# Altium footprint library Conn_JST_S4B-PH-SM4-TB_LF_SN_eec_0.PcbLib: 1 footprints
Each footprint in its own frame and in the unit in brackets; x right, y up, seen from the top. Pads: shape width x height; smd on the part's side, far side on the other; paste and mask are expansions set on the pad; w line width, h text height; cw(c..) or ccw(c..) is an arc to the next point about the centre after c.
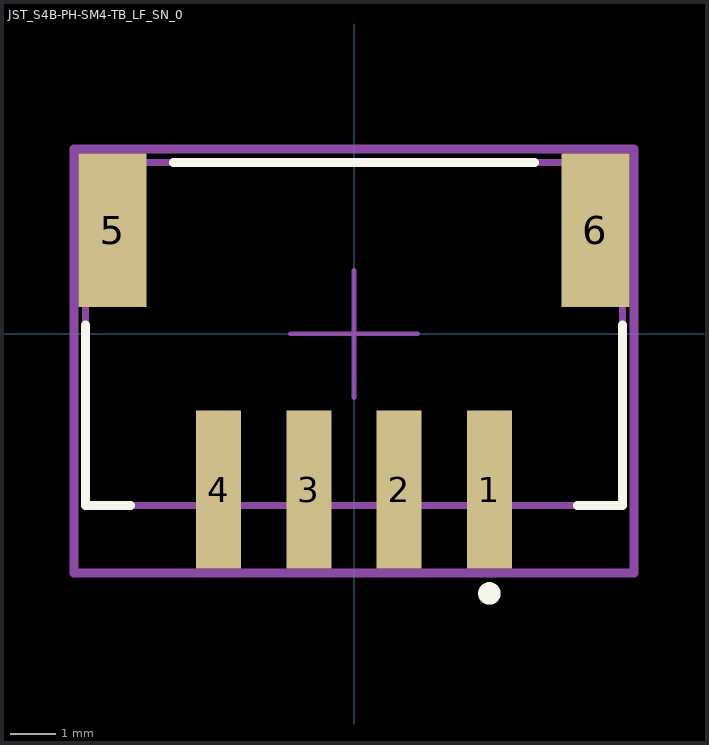
[diagram p0: the footprint, top view; thin cyan lines are the x and y axes]

## JST_S4B-PH-SM4-TB_LF_SN_0 [mm]
pads (6):
  rect 1x3.5 smd paste+0 mask+0: 1(3,-3.45) 2(1,-3.45) 3(-1,-3.45) 4(-3,-3.45)
  rect 1.5x3.4 smd paste+0 mask+0: 5(-5.35,2.3) 6(5.35,2.3)
Top Overlay:
  circle w0.25: c3,-5.75 r0.125
  lines w0.2: -5.95,0.2 -5.95,-3.8 -4.95,-3.8 ; -4,3.8 4,3.8 ; 4.95,-3.8 5.95,-3.8 5.95,0.2
Mechanical 10:
  lines w0.2: -6.2,-5.3 6.2,-5.3 6.2,4.1 -6.2,4.1 -6.2,-5.3
  text ".Designator" at 0,-0.6 h1
Mechanical 12:
  lines w0.15: -5.95,-3.8 5.95,-3.8 5.95,3.8 -5.95,3.8 -5.95,-3.8
Mechanical 15:
  lines w0.1: -1.41,0 1.41,0 ; 0,-1.41 0,1.41
  lines w0.2: -6.2,-5.3 6.2,-5.3 6.2,4.1 -6.2,4.1 -6.2,-5.3
3D body "Conn_JST_S4B-PH-SM4-TB_LF_SN_eec.STEP": height 0.25, standoff 0, extent -6.2,-5.3 6.2,4.1